# EAGLE library part RFM69HW (library RFM69HW)
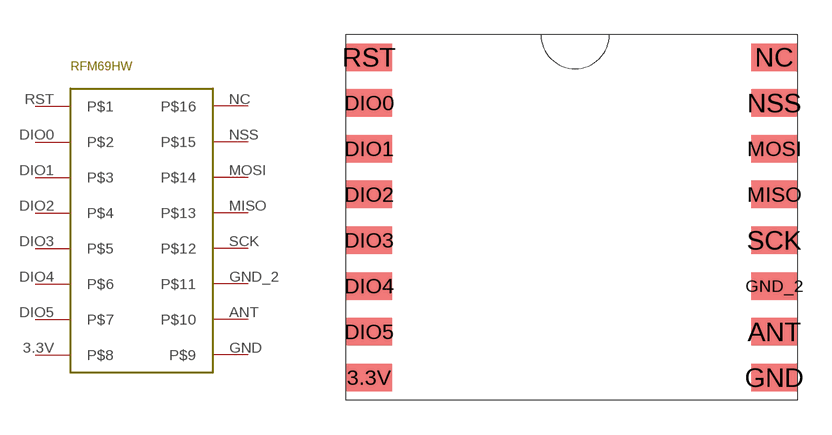
[diagram p0: symbol with the pads of RFM69HW; footprint RFM69HW]

Designator prefix -

## RFM69HW  [RFM69HW]
3.3V  P$8
ANT  P$10
DIO0  P$2
DIO1  P$3
DIO2  P$4
DIO3  P$5
DIO4  P$6
DIO5  P$7
GND  P$9
GND_2  P$11
MISO  P$13
MOSI  P$14
NC  P$16
NSS  P$15
RST  P$1
SCK  P$12

## Footprint RFM69HW (pad centres in mm)
smd 2 x 1.2: 3.3V -9,-7.2; ANT 8.7,-5.2; DIO0 -9,4.8; DIO1 -9,2.8; DIO2 -9,0.8; DIO3 -9,-1.2; DIO4 -9,-3.2; DIO5 -9,-5.2; GND 8.7,-7.2; GND_2 8.7,-3.2; MISO 8.7,0.8; MOSI 8.7,2.8; NC 8.7,6.8; NSS 8.7,4.8; RST -9,6.8; SCK 8.7,-1.2